# EAGLE library part CN3083 (library Elecrow_IC)
USB-Compatible Lithium-Ion Battery Charger with Thermal Regulation http://bbs.dianyuan.com/bbs/u/74/894141234407994.pdf
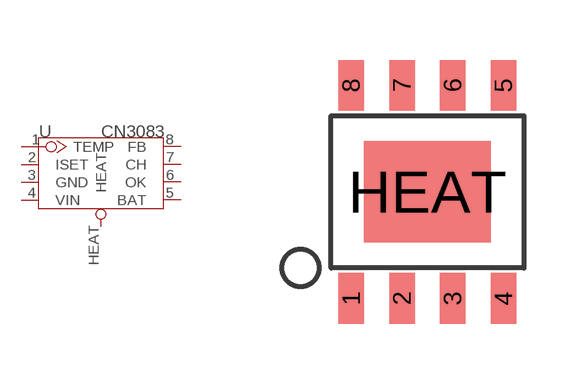
[diagram p39: symbol with the pads of SOP8; footprint SOP8]

Designator prefix U

## CN3083-SOP8  [SOP8]
1  TEMP
2  ISET
3  GND
4  VIN
5  BAT
6  OK
7  CH
8  FB
HEAT  HEAT

## Footprint SOP8 (pad centres in mm)
smd 0.635 x 1.27: 1 -1.905,-2.667; 2 -0.635,-2.667; 3 0.635,-2.667; 4 1.905,-2.667; 5 1.905,2.667; 6 0.635,2.667; 7 -0.635,2.667; 8 -1.905,2.667
smd 3.175 x 2.54: HEAT 0,0